# Altium integrated library 796683-7.IntLib: 1 symbol
Pins are listed as number, name and electrical type; pins without a type are passive.

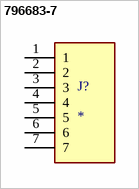
[diagram p0: symbol 796683-7]

## 796683-7
designator J?
MP: 796683-7; Package: None; Price: None; Value: *; Availability: Unavailable
footprint TE_796683-7
pins: 1, 2, 3, 4, 5, 6, 7